# Altium schematic symbol library LCD1602.SchLib: 1 symbol
Pins are listed as number, name and electrical type; pins without a type are passive.

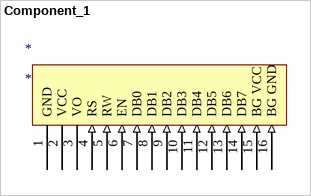
[diagram p0: symbol Component_1]

## Component_1
designator *
pins: 1 GND (power), 2 VCC (power), 3 VO, 4 RS (in), 5 RW (in), 6 EN (in), 7 DB0 (in), 8 DB1 (in), 9 DB2 (in), 10 DB3 (in), 11 DB4 (in), 12 DB5 (in), 13 DB6 (in), 14 DB7 (in), 15 BG VCC (in), 16 BG GND (in)